# Altium schematic symbol library SCH - POWER - LINEAR VREG - ANALOG DEVICES LT3032 ADJ.SchLib: 1 symbol
Pins are listed as number, name and electrical type; pins without a type are passive.

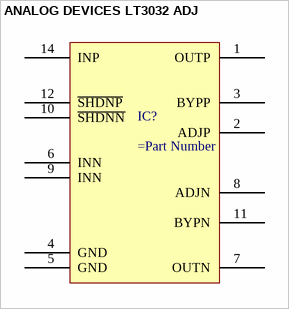
[diagram p0: symbol ANALOG DEVICES LT3032 ADJ]

## ANALOG DEVICES LT3032 ADJ
designator IC?
pins: 1 OUTP, 2 ADJP, 3 BYPP, 4 GND, 5 GND, 6 INN, 7 OUTN, 8 ADJN, 9 INN, 10 ~{SHDNN}, 11 BYPN, 12 ~{SHDNP}, 14 INP